# Altium integrated library Passives.IntLib: 42 symbols
Pins are listed as number, name and electrical type; pins without a type are passive.

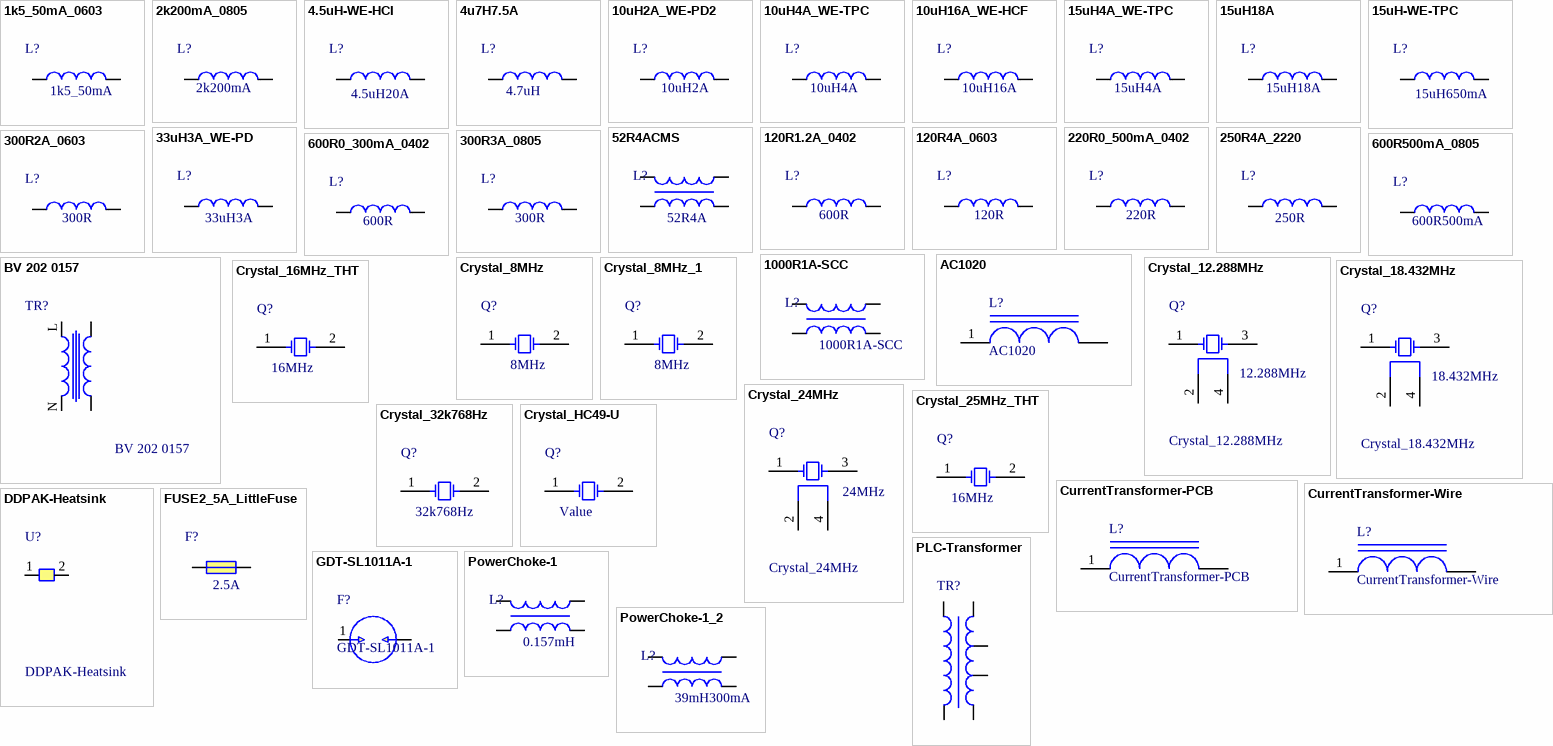
[diagram p0: symbols 1k5_50mA_0603 to PowerChoke-1_2]

## 1k5_50mA_0603
designator L?  value 1k5_50mA  (hidden comment: 1k5_50mA_0603)
WE, Ferrit, 1k5_50mA_0603; Deliverer PartNr: 742792691; TDE-PN: P0028; Deliverer: WE; Manufacturer: WE; Manufacturer PartNr: 742792691; Published: 11.12.2014; Publisher: Sebastian Kulik; PackageDescription: L0603
footprint L0603 (Chip Ferrit, 0603)
pins: 1, 2

## 2k200mA_0805
designator L?  value 2k200mA  (hidden comment: 2k200mA_0805)
Ferrit, 2k, 200mA; Deliverer PartNr: 742792092; Deliverer: WE; TDE-PN: P0037; Manufacturer: WE; Manufacturer PartNr: 742792092; Published: 09.03.2015; Publisher: Sebastian Kulik; PackageDescription: L0805_M
footprint L0805_M (Chip, Body 2.0x1.2mm, IPC Low Density)
pins: 1, 2

## 4.5uH-WE-HCI
designator L?  value 4.5uH20A  (hidden comment: 4.5uH-WE-HCI)
Coil, 4.5uH, 20A; Deliverer PartNr: 7443556450; Deliverer: WE; TDE-PN: P0038; Manufacturer: WE; Manufacturer PartNr: 7443556450; Published: 16.11.2015; Publisher: Sebastian Kulik; PackageDescription: WE-HCI-1890
footprint WE-HCI-1890 (Chip , Body 5.7x6.4mm, IPC High Density)
pins: 1, 2

## 4u7H7.5A
designator L?  value 4.7uH  (hidden comment: 4u7H7.5A)
WE, LHMI; Deliverer PartNr: 74437377047; TDE-PN: P0041; Deliverer: WE; Manufacturer: WE; Manufacturer PartNr: 74437377047; Published: 11.07.2016; Publisher: Sebastian Kulik; PackageDescription: LHM1335; Price: 2.48/1
footprint WE-LHMI1335 (Chip , Body 18.2x18.2)
pins: 1, 2

## 10uH2A_WE-PD2
designator L?, comment 10uH2A
WE-PD2, 10uH2A; Deliverer PartNr: 74477510; Deliverer: WE; TDE-PN: P0017; Manufacturer: WE; Manufacturer PartNr: 74477510; Published: 17.02.2014; Publisher: Sebastian Kulik; PackageDescription: WE-PD2_1; Value: 10uH2A
footprint WE-PD2_1
pins: 1, 2

## 10uH4A_WE-TPC
designator L?, comment 10uH4A
TPC series, 30%, 4A; Deliverer PartNr: 744066100; Deliverer: WE; TDE-PN: P0012; Manufacturer: WE; Manufacturer PartNr: 744066100; Published: 07.04.2014; Publisher: Sebastian Kulik; PackageDescription: WE-TPC; Value: 10uH4A
footprint WE-TPC
pins: 1, 2

## 10uH16A_WE-HCF
designator L?, comment 10uH16A
HCF series, 30%, 16A; Deliverer PartNr: 7443631000; Deliverer: WE; TDE-PN: P0039; Manufacturer: WE; Manufacturer PartNr: 7443631000; Published: 18.02.2016; Publisher: Sebastian Kulik; PackageDescription: WE-HCF; Value: 10uH16A
footprint WE-HCF
pins: 1, 2

## 15uH4A_WE-TPC
designator L?, comment 15uH4A
TPC series, 30%, 4A; Deliverer PartNr: 744066150; Deliverer: WE; TDE-PN: P0013; Manufacturer: WE; Manufacturer PartNr: 744066150; Published: 07.04.2014; Publisher: Sebastian Kulik; PackageDescription: WE-TPC; Value: 15uH4A
footprint WE-TPC
pins: 1, 2

## 15uH18A
designator L?
SER2918H, 20%, 18A; Deliverer PartNr: 2288917; Manufacturer: Coilcraft; Manufacturer PartNr: SER2918H-153KL; Deliverer: Farnell; TDE-PN: P0040; Published: 19.02.2016; Publisher: Sebastian Kulik; PackageDescription: Coilcraft-SER2900; Value: 15uH18A
footprint Coilcraft-SER2900
pins: 1, 2

## 15uH-WE-TPC
designator L?  value 15uH650mA  (hidden comment: 15uH-WE-TPC)
Coil, 15uH, 0.65A; Deliverer PartNr: 744031150; Deliverer: WE; TDE-PN: P0023; Manufacturer: WE; Manufacturer PartNr: 744031150; Published: 1.07.2014; Publisher: Sebastian Kulik; PackageDescription: WE-TPC-3816
footprint WE-TPC-3816 (Chip , Body 5.7x6.4mm, IPC High Density)
pins: 1, 2

## 33uH3A_WE-PD
designator L?, comment 33uH3A
WE-PD series, 20%, 3A; Deliverer PartNr: 744770133; Deliverer: WE; TDE-PN: P0015; Manufacturer: WE; Manufacturer PartNr: 744770133; Published: 07.04.2014; Publisher: Sebastian Kulik; PackageDescription: WE-PD; Value: 33uH3A
footprint WE-PD
pins: 1, 2

## 52R4ACMS
designator L?  value 52R4A  (hidden comment: 52R4ACMS)
Common mode choke; Deliverer PartNr: 1890596; Manufacturer: WE; Manufacturer PartNr: 7427521; Deliverer: Farnell; TDE-PN: P0002; Published: 07.04.2014; Publisher: Sebastian Kulik; PackageDescription: WE-CMS
footprint WE-CMS
pins: 1, 2, 3, 4

## 120R1.2A_0402
designator L?  value 600R  (hidden comment: 120R1.2A_0402)
Ferrit, 1.2A, 120R@100MHz; Deliverer PartNr: 1961699RL; Manufacturer: WE; Manufacturer PartNr: 7427927311; Deliverer: Farnell; TDE-PN: P0022; Published: 26.05.2014; Publisher: Sebastian Kulik; PackageDescription: P0402
footprint P0402 (Chip, Body 1.0x0.5mm)
pins: 1, 2

## 120R4A_0603
designator L?  value 120R  (hidden comment: 120R4A_0603)
Murata, Ferrit, 120Rx2A; Deliverer PartNr: 1515738RL; Manufacturer PartNr: BLM18PG121SN1D; Deliverer: Farnell; TDE-PN: P0016; Manufacturer: Murata; Published: 13.02.2014; Publisher: Sebastian Kulik; PackageDescription: L0603
footprint L0603 (Chip Ferrit, 0603)
pins: 1, 2

## 220R0_500mA_0402
designator L?  value 220R  (hidden comment: 220R0_500mA_0402)
Ferrit, 500mA, 220R@100MHz, 0.38R; Deliverer PartNr: 1748571; Manufacturer: WE; Manufacturer PartNr: 742843122; Deliverer: Farnell; TDE-PN: P0007; Published: 07.04.2014; Publisher: Sebastian Kulik; PackageDescription: P0402
footprint P0402 (Chip, Body 1.0x0.5mm)
pins: 1, 2

## 250R4A_2220
designator L?  value 250R  (hidden comment: 250R4A_2220)
Ferrit, 4A, 250R; Deliverer PartNr: 2066849; Manufacturer: WE; Manufacturer PartNr: 74279224251; Deliverer: Farnell; TDE-PN: P0009; Published: 07.04.2014; Publisher: Sebastian Kulik; PackageDescription: P2220
footprint P2220 (Chip , Body 5.7x6.4mm, IPC High Density)
pins: 1, 2

## 300R2A_0603
designator L?  value 300R  (hidden comment: 300R2A_0603)
WE, Ferrit, 300Rx2A; Deliverer PartNr: 742792641; TDE-PN: P0021; Deliverer: WE; Manufacturer: WE; Manufacturer PartNr: 742792641; Published: 26.05.2014; Publisher: Sebastian Kulik; PackageDescription: L0603
footprint L0603 (Chip Ferrit, 0603)
pins: 1, 2

## 300R3A_0805
designator L?  value 300R  (hidden comment: 300R3A_0805)
Ferrit, 300R, 3A; Deliverer PartNr: 1635734RL; Manufacturer: WE; Manufacturer PartNr: 742792031; Deliverer: Farnell; TDE-PN: P0010; Published: 07.04.2014; Publisher: Sebastian Kulik; PackageDescription: L0805_M
footprint L0805_M (Chip, Body 2.0x1.2mm, IPC Low Density)
pins: 1, 2

## 600R0_300mA_0402
designator L?  value 600R  (hidden comment: 600R0_300mA_0402)
Ferrit, 300mA, 600R@100MHz, 0.6R; Deliverer PartNr: 1961694RL; Manufacturer: WE; Manufacturer PartNr: 7427927291; Deliverer: Farnell; TDE-PN: P0008; Published: 07.04.2014; Publisher: Sebastian Kulik; PackageDescription: P0402
footprint P0402 (Chip, Body 1.0x0.5mm)
pins: 1, 2

## 600R500mA_0805
designator L?  value 600R500mA  (hidden comment: 600R500mA_0805)
Ferrit, 660R, 500mA; Deliverer PartNr: 7427920415; Deliverer: WE; TDE-PN: P0035; Manufacturer: WE; Manufacturer PartNr: 7427920415; Published: 02.02.2015; Publisher: Sebastian Kulik; PackageDescription: L0805_M
footprint L0805_M (Chip, Body 2.0x1.2mm, IPC Low Density)
pins: 1, 2

## 1000R1A-SCC
designator L?
Common mode choke; Deliverer PartNr: 744281100; Deliverer: WE; TDE-PN: P0034; Manufacturer: WE; Manufacturer PartNr: 744281100; Published: 30.01.2015; Publisher: Sebastian Kulik; PackageDescription: WE-CMS; Value: 1000R1A-SCC
footprint WE-SCC_7345
pins: 1, 2, 3, 4

## AC1020
designator L?
Current transformer; Manufacturer PartNr: AC-1020; Deliverer PartNr: 1707839; Manufacturer: Acme Electric; TDE-PN: DIS0028; Deliverer: Farnell; Published: 28.10.2014; Publisher: Sebastian Kulik; PackageDescription: AC1010
footprint AC1010
pins: 1, 2

## BV 202 0157
designator TR?
WE-PD2, 10uH2A; Deliverer PartNr: 1636035; Manufacturer: Hahn; Deliverer: Farnell; TDE-PN: P0024; Manufacturer PartNr: BV 202 0157; Published: 05.11.2014; Publisher: Sebastian Kulik; PackageDescription: TRAFO_0,35VA; Value: BV 202 0157
footprint TRAFO_0,35VA
pins: L, N, OUT1, OUT2

## Crystal_8MHz
designator Q?  value 8MHz  (hidden comment: Crystal_8MHz)
Crystal, 7A-8.000MAAJ-T; Deliverer PartNr: 1892148; Manufacturer: TXC; Deliverer: Farnell; TDE-PN: P0003; Published: 14.02.2014; PackageDescription: TXC_7A; Publisher: Sebastian Kulik; Manufacturer PartNr: 7A-8.000MAAJ-T
footprint TXC_7A
pins: 1, 2

## Crystal_8MHz_1
designator Q?  value 8MHz  (hidden comment: Crystal_8MHz_1)
Crystal, ABM3-8.000MHZ-D2Y-T; Deliverer PartNr: 2101329; Manufacturer: Abacon; Deliverer: Farnell; TDE-PN: P0032; Published: 20.01.2015; PackageDescription: ABM3; Publisher: Sebastian Kulik; Manufacturer PartNr: ABM3-8.000MHZ-D2Y-T
footprint ABM3 (Chip, Body 5x3.2mm)
pins: 1, 2

## Crystal_12.288MHz
designator Q?  value 12.288MHz
Crystal, B2-T; Deliverer PartNr: 1652556; Manufacturer PartNr: ABM3B-12.288MHZ-B2-T; Manufacturer: Abacon; Deliverer: Farnell; TDE-PN: P0001; Published: 09.04.2014; PackageDescription: AbaconCR-1; Publisher: Sebastian Kulik
footprint AbaconCR-1
pins: 1, 2 GND, 3, 4 GND

## Crystal_16MHz_THT
designator Q?  value 16MHz  (hidden comment: Crystal_16MHz_THT)
Deliverer PartNr: 1842216; Manufacturer PartNr: 9B-16.000MAAJ-B; Manufacturer: TXC; Deliverer: Farnell; TDE-PN: P0026; Published: 11.11.2014; PackageDescription: HC-49S; Publisher: Sebastian Kulik
footprint HC49/S
pins: 1 E/D, 2 GND

## Crystal_18.432MHz
designator Q?  value 18.432MHz
Crystal, 7B-24.000MAAJ-T; Deliverer PartNr: 1841984RL; Manufacturer PartNr: 7B-18.432MAAJ-T; Manufacturer: TXC; Deliverer: Farnell; TDE-PN: P0004; Published: 09.04.2014; PackageDescription: TXC_7B; Publisher: Sebastian Kulik
footprint TXC_7B
pins: 1, 2 GND, 3, 4 GND

## Crystal_24MHz
designator Q?  value 24MHz
Crystal, 7B-24.000MAAJ-T; Deliverer PartNr: 1841990RL; Manufacturer: TXC; Deliverer: Farnell; TDE-PN: P0005; Published: 09.04.2014; PackageDescription: TXC_7B; Publisher: Sebastian Kulik; Manufacturer PartNr: 7B-24.000MAAJ-T
footprint TXC_7B
pins: 1, 2 GND, 3, 4 GND

## Crystal_25MHz_THT
designator Q?  value 16MHz  (hidden comment: Crystal_25MHz_THT)
Crystal_16MHz_THT; Deliverer PartNr: 1842235; Manufacturer PartNr: 9B-25.000MAAJ-B; Manufacturer: TXC; Deliverer: Farnell; TDE-PN: P0027; Published: 11.11.2014; PackageDescription: HC-49S; Publisher: Sebastian Kulik
footprint HC49/S
pins: 1 E/D, 2 GND

## Crystal_32k768Hz
designator Q?  value 32k768Hz  (hidden comment: Crystal_32k768Hz)
Crystal, 32.768kHz; Deliverer PartNr: 1607117; Manufacturer PartNr: VT-200-F; Manufacturer: Seiko; Deliverer: Farnell; TDE-PN: P0018; Published: 14.02.2014; PackageDescription: VT-200; Publisher: Sebastian Kulik
footprint VT-200 (Crystal, 32.768kHz)
pins: 1 E/D, 2 GND

## Crystal_HC49-U
designator Q?, comment Crystal_HC49-U_THT  (value not drawn)
Crystal_HC49-U Uni; Deliverer: RS; Published: 22.11.2016; PackageDescription: HC-49U; Publisher: Sebastian Kulik; Value: Value
footprint HC49-U
pins: 1 E/D, 2 GND

## CurrentTransformer-PCB
designator L?
Current transformer; Manufacturer PartNr: T60404-E4626-X502; TDE-PN: P0029; Deliverer: VAC; Published: 12.12.2014; Publisher: Sebastian Kulik; PackageDescription: T60404-E4626-X502; Deliverer PartNr: T60404-E4626-X502; Manufacturer: VAC
footprint T60404-E4626-X502 (VAC, T60404-E4626-X502)
pins: 1, 2

## CurrentTransformer-Wire
designator L?
Current transformer; Manufacturer PartNr: T60404-E4626-X002; TDE-PN: P0030; Deliverer: VAC; Published: 12.12.2014; Publisher: Sebastian Kulik; PackageDescription: T60404-E4626-X002; Deliverer PartNr: T60404-E4626-X002; Manufacturer: VAC
footprint T60404-E4626-X002 (VAC, T60404-E4626-X002)
pins: 1, 2

## DDPAK-Heatsink
designator U?
DDPAK-Heatsink, SMD; Deliverer PartNr: 2413128; Manufacturer PartNr: 217-36CTRE6; Manufacturer: WAKEFIELD SOLUTIONS; Deliverer: Farnell; TDE-PN: P0014; Published: 19.05.2014; PackageDescription: SPL1620; Publisher: Sebastian Kulik
footprint SLP1620P4
pins: 1, 2

## FUSE2_5A_LittleFuse
designator F?  value 2.5A  (hidden comment: FUSE2_5A_LittleFuse)
Fude, 2.5A 250V; Deliverer PartNr: 1824504; Manufacturer PartNr: 016002.5MR; Deliverer: Farnell; TDE-PN: P0020; Manufacturer: Littlefuse; Published: 22.05.2014; Publisher: Sebastian Kulik; PackageDescription: LittleFuseHF160
footprint LittlefuseHF160 (Fuse SMD)
pins: 1, 2

## GDT-SL1011A-1
designator F?
surge protector; Manufacturer PartNr: SL1011B250A; Deliverer PartNr: 1815462; Manufacturer: LITTLEFUSE; TDE-PN: P0031; Deliverer: Farnell; Published: 12.12.2014; Publisher: Sebastian Kulik; PackageDescription: SL1011A/SL1011B
footprint SL1011A/SL1011B (Surge stopper)
pins: 1, 2

## PLC-Transformer
designator TR?  (value not drawn)
Deliverer PartNr: T60403-K5024-X044; Manufacturer: VAC; Deliverer: SOS Electronic; TDE-PN: P0025; Manufacturer PartNr: T60403-K5024-X044; Published: 13.05.2014; Publisher: Sebastian Kulik; PackageDescription: PLC-UEBERTRAGER_V2
footprint PLC-UEBERTRAGER_V2
pins: 1LINE1 LINE1, 2, 3, 4LINE2, 8N, L5

## PowerChoke-1
designator L?  value 0.157mH  (hidden comment: PowerChoke-1)
Power choke; Deliverer PartNr: 74482210002; Deliverer: WE; TDE-PN: P0019; Manufacturer: WE; Manufacturer PartNr: 74482210002; Published: 13.05.2014; Publisher: Sebastian Kulik; PackageDescription: WE-CMB
footprint WE-CMB (Filter choke)
pins: 1, 2, 3, 4

## PowerChoke-1_2
designator L?, comment value 39mH300mA  (hidden comment: PowerChoke-2)
Power choke/EMC filter; Deliverer PartNr: 744821039; Deliverer: WE; TDE-PN: P0033; Manufacturer: WE; Manufacturer PartNr: 744821039; Published: 21.01.2015; Publisher: Sebastian Kulik; PackageDescription: WE-CMB-XS
footprint WE-CMB-XS (Filter choke)
pins: 1, 2, 3, 4

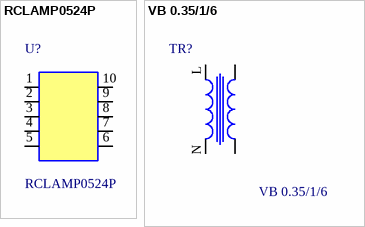
[diagram p1: symbols RCLAMP0524P to VB 0.35/1/6]

## RCLAMP0524P
designator U?
ESD protection; Deliverer PartNr: 1651645; Manufacturer PartNr: RCLAMP0524P.TCT; Manufacturer: Semtech; Deliverer: Farnell; TDE-PN: P0014; Published: 07.04.2014; PackageDescription: SPL1620; Publisher: Sebastian Kulik
footprint SLP1620P4
pins: 1, 2, 3, 4, 5, 6, 7, 8, 9, 10

## VB 0.35/1/6
designator TR?
Transformer, 230V Pri, 6V Sec; Deliverer PartNr: 1711391; Manufacturer: Block; Deliverer: Farnell; TDE-PN: P0036; Manufacturer PartNr: VB 0.35/1/6; Published: 05.11.2014; Publisher: Sebastian Kulik; PackageDescription: TRAFO_0,35VA; Value: VB 0.35/1/6
footprint TRAFO_0,35VA - Block (VB 0.35/1/6)
pins: L, N, OUT1, OUT2